# EAGLE library part SEEEDUINO_NANO (library Dimmer)
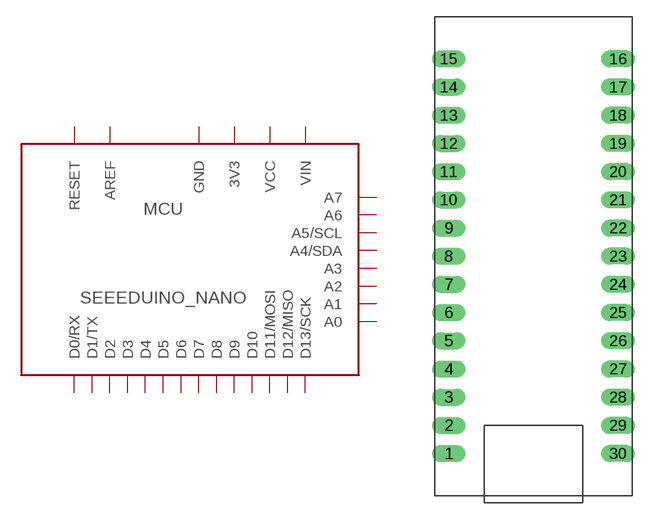
[diagram p0: symbol with the pads of SEEEDUINO_NANO; footprint SEEEDUINO_NANO]

Designator prefix MCU

## SEEEDUINO_NANO  [SEEEDUINO_NANO]
1  D12/MISO
2  D11/MOSI
3  D10
4  D9
5  D8
6  D7
7  D6
8  D5
9  D4
10  D3
11  D2
12  GND
13  RESET
14  D0/RX
15  D1/TX
16  VIN
17  GND
18  RESET
19  VCC
20  A7
21  A6
22  A5/SCL
23  A4/SDA
24  A3
25  A2
26  A1
27  A0
28  AREF
29  3V3
30  D13/SCK

## Footprint SEEEDUINO_NANO (pad centres in mm)
drill 1.016 long: 1 -7.62,-17.78; 2 -7.62,-15.24; 3 -7.62,-12.7; 4 -7.62,-10.16; 5 -7.62,-7.62; 6 -7.62,-5.08; 7 -7.62,-2.54; 8 -7.62,0; 9 -7.62,2.54; 10 -7.62,5.08; 11 -7.62,7.62; 12 -7.62,10.16; 13 -7.62,12.7; 14 -7.62,15.24; 15 -7.62,17.78; 16 7.62,17.78; 17 7.62,15.24; 18 7.62,12.7; 19 7.62,10.16; 20 7.62,7.62; 21 7.62,5.08; 22 7.62,2.54; 23 7.62,0; 24 7.62,-2.54; 25 7.62,-5.08; 26 7.62,-7.62; 27 7.62,-10.16; 28 7.62,-12.7; 29 7.62,-15.24; 30 7.62,-17.78